# Altium schematic symbol library CN 5POS JST ZR RA.Schlib: 1 symbol
Pins are listed as number, name and electrical type; pins without a type are passive.

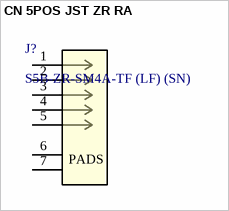
[diagram p0: symbol CN 5POS JST ZR RA]

## CN 5POS JST ZR RA
designator J?, comment S5B-ZR-SM4A-TF (LF) (SN)
Connector Header Surface Mount, Right Angle 5 position 0.059" (1.50mm)
footprint JST_S5B-ZR-SM4A-TF
pins: 1, 2, 3, 4, 5, 6, 7
text: PADS